# EAGLE library part RENESAS_R7FS3A37A3A01CFMAA0 (library 3D_MIG_Controller)
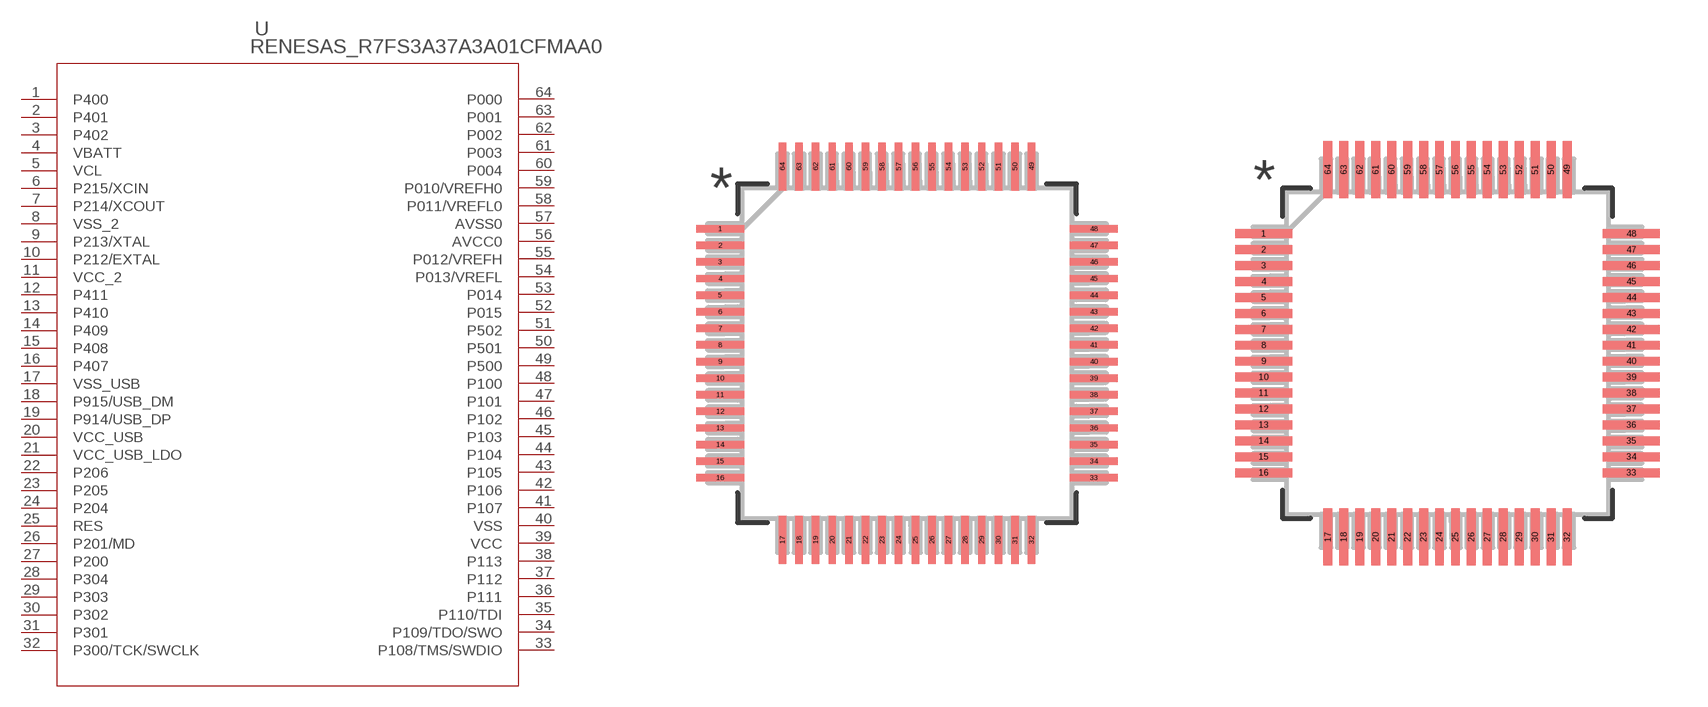
[diagram p88: symbol with the pads of PLQP0064KB-C_REN; footprints PLQP0064KB-C_REN, PLQP0064KB-C_REN-M]

Designator prefix U

## RENESAS_R7FS3A37A3A01CFMAA0 (COPYRIGHT: Copyright (C) 2023 Ultra Librarian. All rights reserved.; MANUFACTURER_PART_NUMBER: R7FS3A37A3A01CFM#AA0; MFR_NAME: Renesas Electronics)  [PLQP0064KB-C_REN]
1  P400
2  P401
3  P402
4  VBATT  pwr
5  VCL  pwr
6  P215/XCIN
7  P214/XCOUT
8  VSS_2  pwr
9  P213/XTAL
10  P212/EXTAL
11  VCC_2  pwr
12  P411
13  P410
14  P409
15  P408
16  P407
17  VSS_USB  pwr
18  P915/USB_DM
19  P914/USB_DP
20  VCC_USB  pwr
21  VCC_USB_LDO  pwr
22  P206
23  P205
24  P204
25  RES  in
26  P201/MD
27  P200
28  P304
29  P303
30  P302
31  P301
32  P300/TCK/SWCLK
33  P108/TMS/SWDIO
34  P109/TDO/SWO
35  P110/TDI
36  P111
37  P112
38  P113
39  VCC  pwr
40  VSS  pwr
41  P107
42  P106
43  P105
44  P104
45  P103
46  P102
47  P101
48  P100
49  P500
50  P501
51  P502
52  P015
53  P014
54  P013/VREFL
55  P012/VREFH
56  AVCC0  pwr
57  AVSS0  pwr
58  P011/VREFL0
59  P010/VREFH0
60  P004
61  P003
62  P002
63  P001
64  P000

## RENESAS_R7FS3A37A3A01CFMAA0PLQP0064KB-C_REN-M (COPYRIGHT: Copyright (C) 2023 Ultra Librarian. All rights reserved.; MANUFACTURER_PART_NUMBER: R7FS3A37A3A01CFM#AA0; MFR_NAME: Renesas Electronics)  [PLQP0064KB-C_REN-M]
Pads as for PLQP0064KB-C_REN

## RENESAS_R7FS3A37A3A01CFMAA0PLQP0064KB-C_REN-L (COPYRIGHT: Copyright (C) 2023 Ultra Librarian. All rights reserved.; MANUFACTURER_PART_NUMBER: R7FS3A37A3A01CFM#AA0; MFR_NAME: Renesas Electronics)  [PLQP0064KB-C_REN-L]
Pads as for PLQP0064KB-C_REN

## Footprint PLQP0064KB-C_REN (pad centres in mm)
smd 1.473 x 0.229: 1 -5.715,3.81; 2 -5.715,3.302; 3 -5.715,2.794; 4 -5.715,2.286; 5 -5.715,1.778; 6 -5.715,1.27; 7 -5.715,0.762; 8 -5.715,0.254; 9 -5.715,-0.254; 10 -5.715,-0.762; 11 -5.715,-1.27; 12 -5.715,-1.778; 13 -5.715,-2.286; 14 -5.715,-2.794; 15 -5.715,-3.302; 16 -5.715,-3.81; 33 5.715,-3.81; 34 5.715,-3.302; 35 5.715,-2.794; 36 5.715,-2.286; 37 5.715,-1.778; 38 5.715,-1.27; 39 5.715,-0.762; 40 5.715,-0.254; 41 5.715,0.254; 42 5.715,0.762; 43 5.715,1.27; 44 5.715,1.778; 45 5.715,2.286; 46 5.715,2.794; 47 5.715,3.302; 48 5.715,3.81
smd 0.229 x 1.473: 17 -3.81,-5.715; 18 -3.302,-5.715; 19 -2.794,-5.715; 20 -2.286,-5.715; 21 -1.778,-5.715; 22 -1.27,-5.715; 23 -0.762,-5.715; 24 -0.254,-5.715; 25 0.254,-5.715; 26 0.762,-5.715; 27 1.27,-5.715; 28 1.778,-5.715; 29 2.286,-5.715; 30 2.794,-5.715; 31 3.302,-5.715; 32 3.81,-5.715; 49 3.81,5.715; 50 3.302,5.715; 51 2.794,5.715; 52 2.286,5.715; 53 1.778,5.715; 54 1.27,5.715; 55 0.762,5.715; 56 0.254,5.715; 57 -0.254,5.715; 58 -0.762,5.715; 59 -1.27,5.715; 60 -1.778,5.715; 61 -2.286,5.715; 62 -2.794,5.715; 63 -3.302,5.715; 64 -3.81,5.715

## Footprint PLQP0064KB-C_REN-M (pad centres in mm)
smd 1.778 x 0.279: 1 -5.766,3.75; 2 -5.766,3.25; 3 -5.766,2.75; 4 -5.766,2.25; 5 -5.766,1.75; 6 -5.766,1.25; 7 -5.766,0.75; 8 -5.766,0.25; 9 -5.766,-0.25; 10 -5.766,-0.75; 11 -5.766,-1.25; 12 -5.766,-1.75; 13 -5.766,-2.25; 14 -5.766,-2.75; 15 -5.766,-3.25; 16 -5.766,-3.75; 33 5.766,-3.75; 34 5.766,-3.25; 35 5.766,-2.75; 36 5.766,-2.25; 37 5.766,-1.75; 38 5.766,-1.25; 39 5.766,-0.75; 40 5.766,-0.25; 41 5.766,0.25; 42 5.766,0.75; 43 5.766,1.25; 44 5.766,1.75; 45 5.766,2.25; 46 5.766,2.75; 47 5.766,3.25; 48 5.766,3.75
smd 0.279 x 1.778: 17 -3.75,-5.766; 18 -3.25,-5.766; 19 -2.75,-5.766; 20 -2.25,-5.766; 21 -1.75,-5.766; 22 -1.25,-5.766; 23 -0.75,-5.766; 24 -0.25,-5.766; 25 0.25,-5.766; 26 0.75,-5.766; 27 1.25,-5.766; 28 1.75,-5.766; 29 2.25,-5.766; 30 2.75,-5.766; 31 3.25,-5.766; 32 3.75,-5.766; 49 3.75,5.766; 50 3.25,5.766; 51 2.75,5.766; 52 2.25,5.766; 53 1.75,5.766; 54 1.25,5.766; 55 0.75,5.766; 56 0.25,5.766; 57 -0.25,5.766; 58 -0.75,5.766; 59 -1.25,5.766; 60 -1.75,5.766; 61 -2.25,5.766; 62 -2.75,5.766; 63 -3.25,5.766; 64 -3.75,5.766

## Footprint PLQP0064KB-C_REN-L (pad centres in mm)
smd 1.168 x 0.229: 1 -5.664,3.81; 2 -5.664,3.302; 3 -5.664,2.794; 4 -5.664,2.286; 5 -5.664,1.778; 6 -5.664,1.27; 7 -5.664,0.762; 8 -5.664,0.254; 9 -5.664,-0.254; 10 -5.664,-0.762; 11 -5.664,-1.27; 12 -5.664,-1.778; 13 -5.664,-2.286; 14 -5.664,-2.794; 15 -5.664,-3.302; 16 -5.664,-3.81; 33 5.664,-3.81; 34 5.664,-3.302; 35 5.664,-2.794; 36 5.664,-2.286; 37 5.664,-1.778; 38 5.664,-1.27; 39 5.664,-0.762; 40 5.664,-0.254; 41 5.664,0.254; 42 5.664,0.762; 43 5.664,1.27; 44 5.664,1.778; 45 5.664,2.286; 46 5.664,2.794; 47 5.664,3.302; 48 5.664,3.81
smd 0.229 x 1.168: 17 -3.81,-5.664; 18 -3.302,-5.664; 19 -2.794,-5.664; 20 -2.286,-5.664; 21 -1.778,-5.664; 22 -1.27,-5.664; 23 -0.762,-5.664; 24 -0.254,-5.664; 25 0.254,-5.664; 26 0.762,-5.664; 27 1.27,-5.664; 28 1.778,-5.664; 29 2.286,-5.664; 30 2.794,-5.664; 31 3.302,-5.664; 32 3.81,-5.664; 49 3.81,5.664; 50 3.302,5.664; 51 2.794,5.664; 52 2.286,5.664; 53 1.778,5.664; 54 1.27,5.664; 55 0.762,5.664; 56 0.254,5.664; 57 -0.254,5.664; 58 -0.762,5.664; 59 -1.27,5.664; 60 -1.778,5.664; 61 -2.286,5.664; 62 -2.794,5.664; 63 -3.302,5.664; 64 -3.81,5.664